# Altium footprint library DIP-RL  0607.PCBlib: 52 footprints (part 1 of 4)
Each footprint in its own frame and in the unit in brackets; x right, y up, seen from the top. Pads: shape width x height; smd on the part's side, far side on the other; paste and mask are expansions set on the pad; w line width, h text height; cw(c..) or ccw(c..) is an arc to the next point about the centre after c.
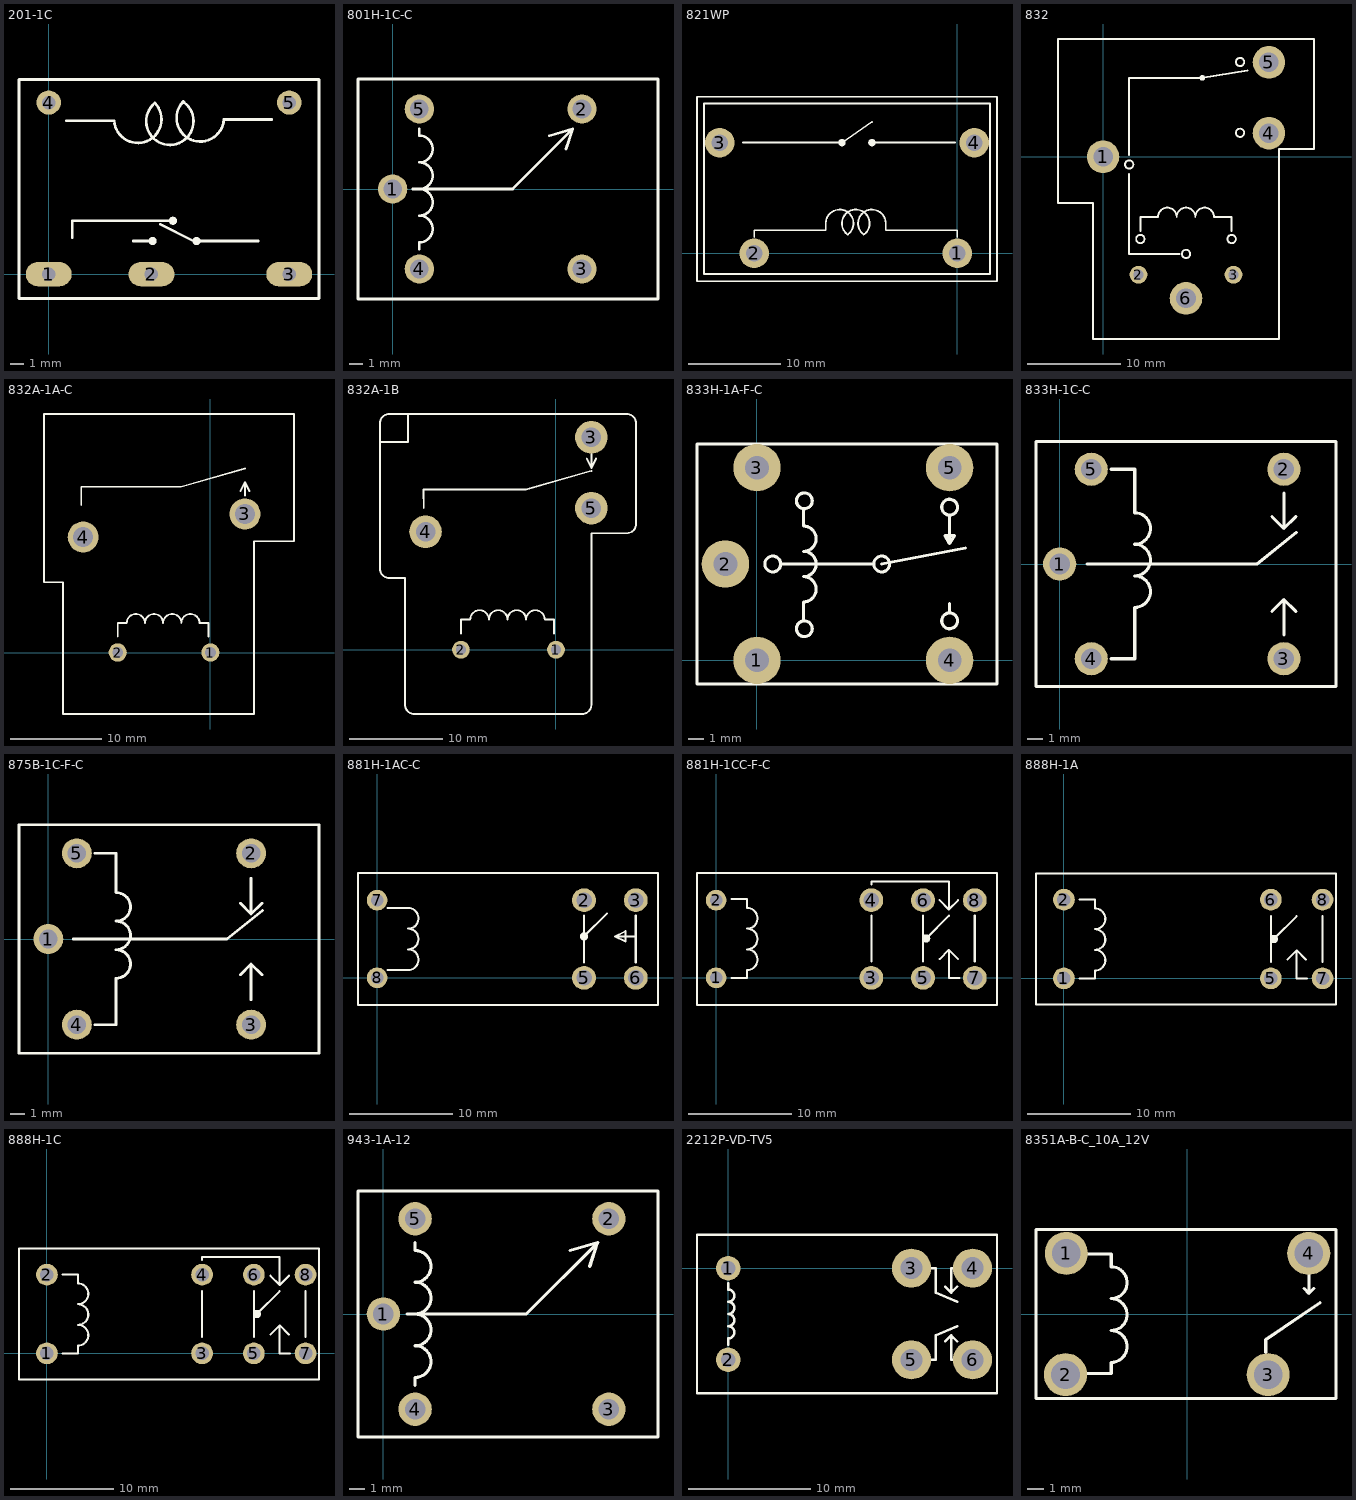
[diagram p0: the footprints below, top view; thin cyan lines are the x and y axes]

## 201-1C [mm] "201"
height 11
pads (5):
  oval 3.4x1.8 hole 1: 1(0,0) 2(7.6,0) 3(17.8,0)
  round 1.8 hole 1: 4(0,12.7) 5(17.8,12.7)
Top Overlay:
  circle w0.2: c9.191,3.95 r0.2
  circle w0.2: c10.941,2.45 r0.2
  circle w0.2: c7.691,2.45 r0.2
  lines w0.2: 1.305,11.344 4.845,11.344 ccw(c6.592,11.456) 7.855,12.666 ccw(c8.964,11.312) 10.013,12.713 ; 1.75,2.7 1.75,3.95 9.25,3.95 ; 6.25,2.45 7.891,2.45 ; 8.25,3.7 10.75,2.45 15.5,2.45 ; 9.95,12.773 ccw(c11.214,11.562) 12.96,11.45 16.5,11.45 16.513,11.463 ; -2.2,-1.8 -2.2,14.4 20,14.4 20,-1.8 -2.2,-1.8
Top Solder:
  lines w1.3: -0.5,0 0,0 0.5,0 ; 7.1,0 7.6,0 8.1,0 ; 17.3,0 17.8,0 18.3,0
Drill Drawing:
  lines w0.2: -0.5,-0.5 cw(c-0.5,0) -0.5,0.5 0.5,0.5 cw(c0.5,0) 0.5,-0.5 -0.5,-0.5 ; 7.1,-0.5 cw(c7.1,0) 7.1,0.5 8.1,0.5 cw(c8.1,0) 8.1,-0.5 7.1,-0.5 ; 17.3,-0.5 cw(c17.3,0) 17.3,0.5 18.3,0.5 cw(c18.3,0) 18.3,-0.5 17.3,-0.5
  text "(2.0*1.0)mm*3" at 2.5,1.75 h1.2

## 801H-1C-C [mm] "0720980015"
height 20.2
pads (5):
  round 2.2 hole 1.4: 1(0,0) 2(14.2,6) 3(14.2,-6) 4(2,-6) 5(2,6)
Top Overlay:
  lines w0.2: 1.5,0 9,0 13.5,4.5 ; 2,-4.5 2,-4 ccw(c2,-3) 2,-2 ccw(c2,-1) 2,0 ccw(c2,1) 2,2 ccw(c2,3) 2,4 2,4.5 ; 11.75,4 13.5,4.5 ; 13,3 13.5,4.5 ; -2.6,-8.25 19.9,-8.25 19.9,8.25 -2.6,8.25 -2.6,-8.25

## 821WP [mm]
height 32
pads (4):
  round 3.2 hole 1.8: 1(0,0) 2(-22,0) 3(-25.75,12) 4(1.85,12)
Top Overlay:
  circle w0.3: c-12.5,12 r0.25
  circle w0.3: c-9.25,12 r0.25
  lines w0.2: -23.25,12 -12.5,12 -9.25,14.25 ; -22,1.75 -22,2.5 -14.25,2.5 -14.25,3.25 cw(c-12.75,3.25) -11.847,2.052 ; -11.903,2.052 cw(c-11,3.25) -10.036,2.101 ; -10.153,2.052 cw(c-9.25,3.25) -7.75,3.25 -7.75,2.5 0,2.5 0,1.75 ; -9.25,12 -0.25,12 ; -28.2,-3.025 -28.2,16.975 4.3,16.975 4.3,-3.025 -28.2,-3.025 ; -27.45,-2.25 -27.45,16.25 3.55,16.25 3.55,-2.25 -27.45,-2.25

## 832 [mm]
height 20.4
pads (6):
  round 3.5 hole 2.1: 1(0,0) 4(17.8,2.54) 5(17.8,10.14) 6(8.9,-15.2)
  round 1.9 hole 1.1: 2(3.8,-12.66) 3(14,-12.66)
Top Overlay:
  circle w0.2: c10.647,8.47 r0.2
  circle w0.2: c14.7,2.57 r0.447
  circle w0.2: c14.7,10.17 r0.447
  circle w0.2: c4,-8.83 r0.447
  circle w0.2: c13.8,-8.83 r0.447
  circle w0.2: c8.9,-10.43 r0.447
  circle w0.2: c2.8,-0.83 r0.447
  lines w0.2: 2.8,-1.83 2.8,-10.43 8.2,-10.43 ; 2.8,0.17 2.8,8.47 10.5,8.47 15.5,9.27 ; 4,-7.96 4,-6.46 ; 13.8,-7.96 13.8,-6.46 11.9,-6.46 ccw(c10.9,-6.46) 9.9,-6.46 ccw(c8.9,-6.46) 7.9,-6.46 ccw(c6.9,-6.46) 5.9,-6.46 ; 4,-6.46 5.9,-6.46 ; 4,-6.46 5.9,-6.46 ; -4.85,-4.96 -4.85,12.64 22.65,12.64 22.65,0.84 18.9,0.84 18.9,-19.56 -1.1,-19.56 -1.1,-4.96 -4.85,-4.96

## 832A-1A-C [mm] "0720610015"
height 20.4
pads (4):
  round 2 hole 1.2: 1(0,0) 2(-10.2,0)
  round 3.4 hole 2.2: 3(3.794,15.236) 4(-14,12.7)
Top Overlay:
  lines w0.2: -14.206,16.236 -14.206,18.236 -3.206,18.236 3.794,20.236 ; -10.206,1.736 -10.206,3.236 -9.206,3.236 cw(c-8.206,3.236) -7.206,3.236 cw(c-6.206,3.236) -5.206,3.236 cw(c-4.206,3.236) -3.206,3.236 cw(c-2.206,3.236) -1.206,3.236 -0.206,3.236 -0.206,1.736 ; 3.294,17.736 3.794,18.736 ; 3.794,17.236 3.794,18.736 ; 4.294,17.736 3.794,18.736 ; -18.3,7.736 -18.3,26.236 9.18,26.236 9.18,12.236 4.794,12.236 4.794,-6.764 -16.206,-6.764 -16.206,7.736 -18.3,7.736

## 832A-1B [mm]
height 20.4
pads (5):
  round 1.9 hole 1.1: 1(0,0) 2(-10.2,0)
  round 3.5 hole 2.1: 3(3.8,22.8) 4(-14,12.66) 5(3.8,15.2)
Top Overlay:
  lines w0.2: -18.9,22.3 -15.9,22.3 -15.9,25.3 ; -14.2,15.2 -14.206,17.196 -3.206,17.196 3.8,19.2 ; -10.206,1.736 -10.206,3.236 -9.206,3.236 cw(c-8.206,3.236) -7.206,3.236 cw(c-6.206,3.236) -5.206,3.236 cw(c-4.206,3.236) -3.206,3.236 cw(c-2.206,3.236) -1.206,3.236 -0.206,3.236 -0.206,1.736 ; 3.306,20.504 3.806,19.504 ; 3.806,21.004 3.806,19.504 ; 4.306,20.504 3.806,19.504 ; -18.9,8.7 ccw(c-17.9,8.7) -17.9,7.7 -16.2,7.7 -16.2,-5.9 ccw(c-15.2,-5.9) -15.2,-6.9 2.8,-6.9 ccw(c2.8,-5.9) 3.8,-5.9 3.8,12.5 7.6,12.5 ccw(c7.6,13.5) 8.6,13.5 8.6,24.3 ccw(c7.6,24.3) 7.6,25.3 -17.9,25.3 ccw(c-17.9,24.3) -18.9,24.3 -18.9,8.7

## 833H-1A-F-C [mm] "0720840515"
height 15
pads (5):
  round 3 hole 1.5: 1(0,0) 2(-2,6.1) 3(0,12.2) 4(12.2,0) 5(12.2,12.2)
Top Overlay:
  circle w0.2: c12.2,2.5 r0.5
  circle w0.2: c12.2,9.7 r0.5
  circle w0.2: c7.9,6.1 r0.5
  circle w0.2: c1,6.1 r0.5
  circle w0.2: c3,2 r0.5
  circle w0.2: c3,10.1 r0.5
  lines w0.2: 1.5,6.1 7.4,6.1 ; 2.95,2.55 2.95,3.7 ccw(c2.95,4.5) 2.95,5.3 ccw(c2.95,6.1) 2.95,6.9 ccw(c2.95,7.7) 2.95,8.5 2.95,9.55 ; 7.9,6.1 13.208,7.112 ; 12.2,3 12.2,3.6 ; 12.2,9.2 12.2,7.4 ; 12.2,7.4 11.9,7.9 12.5,7.9 12.2,7.4 ; -3.8,-1.5 -3.8,13.7 15.2,13.7 15.2,-1.5 -3.8,-1.5

## 833H-1C-C [mm] "0720840115"
height 15
pads (5):
  round 2.1 hole 1.3: 1(0,0) 2(14.2,6) 3(14.2,-6) 4(2,-6) 5(2,6)
Top Overlay:
  lines w0.2: 1.75,0 12.5,0 15,2 ; 3.25,-6 4.75,-6 4.75,-2.75 ccw(c4.75,-1.75) 4.75,-0.75 ccw(c4.75,0.25) 4.75,1.25 ccw(c4.75,2.25) 4.75,3.25 4.75,6 3.25,6 ; 13.45,-3 14.2,-2.25 ; 13.45,3 14.2,2.25 ; 14.2,-4.5 14.2,-2.25 ; 14.2,4.5 14.2,2.25 ; 14.95,-3 14.2,-2.25 ; 14.95,3 14.2,2.25 ; -1.5,-7.75 17.5,-7.75 17.5,7.75 -1.5,7.75 -1.5,-7.75

## 875B-1C-F-C [mm] "0721100015"
height 20.3
pads (5):
  round 2.1 hole 1.3: 1(0,0) 2(14.2,6) 3(14.2,-6) 4(2,-6) 5(2,6)
Top Overlay:
  lines w0.2: 1.75,0 12.5,0 15,2 ; 3.25,-6 4.75,-6 4.75,-2.75 ccw(c4.75,-1.75) 4.75,-0.75 ccw(c4.75,0.25) 4.75,1.25 ccw(c4.75,2.25) 4.75,3.25 4.75,6 3.25,6 ; 13.45,-2.5 14.2,-1.75 ; 13.45,2.5 14.2,1.75 ; 14.2,-4.25 14.2,-1.75 ; 14.2,4.25 14.2,1.75 ; 14.95,-2.5 14.2,-1.75 ; 14.95,2.5 14.2,1.75 ; -2.05,-8 -2.05,8 18.95,8 18.95,-8 -2.05,-8

## 881H-1AC-C [mm]
height 20.6
pads (6):
  round 2.3 hole 1.5: 2(20,7.5) 3(25,7.5) 5(20,0) 6(25,0)
  round 2 hole 1.2: 7(0,7.5) 8(0,0)
Top Overlay:
  circle w0.3: c20,4 r0.25
  lines w0.2: 1,0.75 3,0.75 ccw(c3,1.75) 3,2.75 ccw(c3,3.75) 3,4.75 ccw(c3,5.75) 3,6.75 1,6.75 ; 20,1.5 20,6 ; 20,4 22.2,6.2 ; 25,1.5 25,6 ; 25,4 23,4 ; 23,4 24,4.5 24,3.5 23,4 ; -1.85,-2.65 27.15,-2.65 27.15,10.15 -1.85,10.15 -1.85,-2.65

## 881H-1CC-F-C [mm]
height 20.6
pads (8):
  round 2 hole 1.2: 1(0,0) 2(0,7.5)
  round 2.3 hole 1.5: 3(15,0) 4(15,7.5) 5(20,0) 6(20,7.5) 7(25,0) 8(25,7.5)
Top Overlay:
  circle w0.3: c20.3,3.8 r0.25
  lines w0.2: 1.5,0 3,0 3,0.75 ccw(c3,1.75) 3,2.75 ccw(c3,3.75) 3,4.75 ccw(c3,5.75) 3,6.75 3,7.6 1.5,7.6 ; 15,1.6 15,6 ; 15,9 15,9.3 21.5,9.3 22.5,9.3 22.5,6.6 ; 20,1.6 20,6 ; 20,3.8 20.3,3.8 22.5,6 ; 21.6,1.8 22.5,2.7 ; 21.6,7.5 22.5,6.6 ; 23.4,1.8 22.5,2.7 ; 23.4,7.5 22.5,6.6 ; 23.5,0 22.5,0 22.5,2.7 ; 25,1.6 25,6 ; -1.85,-2.65 -1.85,10.15 27.15,10.15 27.15,-2.65 -1.85,-2.65

## 888H-1A [mm]
height 15.7
pads (6):
  round 2.1 hole 1.3: 1(-0.001,0.009) 2(-0.001,7.609) 5(19.999,0.009) 6(19.999,7.609) 7(24.999,0.009) 8(24.999,7.609)
Top Overlay:
  circle w0.3: c20.299,3.809 r0.25
  lines w0.2: 1.499,0.009 2.999,0.009 2.999,0.759 ccw(c2.999,1.759) 2.999,2.759 ccw(c2.999,3.759) 2.999,4.759 ccw(c2.999,5.759) 2.999,6.759 2.999,7.609 1.499,7.609 ; 19.999,1.609 19.999,6.009 ; 19.999,3.809 20.299,3.809 22.499,6.009 ; 21.599,1.809 22.499,2.709 ; 23.399,1.809 22.499,2.709 ; 23.499,0.009 22.499,0.009 22.499,2.709 ; 24.999,1.609 24.999,6.009 ; -2.701,-2.541 26.299,-2.541 26.299,10.159 -2.701,10.159 -2.701,-2.541

## 888H-1C [mm]
height 15.7
pads (8):
  round 2.1 hole 1.3: 1(-0.001,0.009) 2(-0.001,7.609) 3(14.999,0.009) 4(14.999,7.609) 5(19.999,0.009) 6(19.999,7.609) 7(24.999,0.009) 8(24.999,7.609)
Top Overlay:
  circle w0.3: c20.299,3.809 r0.25
  lines w0.2: 1.499,0.009 2.999,0.009 2.999,0.759 ccw(c2.999,1.759) 2.999,2.759 ccw(c2.999,3.759) 2.999,4.759 ccw(c2.999,5.759) 2.999,6.759 2.999,7.609 1.499,7.609 ; 14.999,1.609 14.999,6.009 ; 14.999,9.009 14.999,9.309 21.499,9.309 22.499,9.309 22.499,6.609 ; 19.999,1.609 19.999,6.009 ; 19.999,3.809 20.299,3.809 22.499,6.009 ; 21.599,1.809 22.499,2.709 ; 21.599,7.509 22.499,6.609 ; 23.399,1.809 22.499,2.709 ; 23.399,7.509 22.499,6.609 ; 23.499,0.009 22.499,0.009 22.499,2.709 ; 24.999,1.609 24.999,6.009 ; -2.701,-2.541 26.299,-2.541 26.299,10.159 -2.701,10.159 -2.701,-2.541

## 943-1A-12 [mm] "072068053300"
height 15.5
pads (5):
  round 2.1 hole 1.3: 1(0,0) 2(14.2,6) 3(14.2,-6) 4(2,-6) 5(2,6)
Top Overlay:
  lines w0.2: 1.5,0 9,0 13.5,4.5 ; 2,-4.5 2,-4 ccw(c2,-3) 2,-2 ccw(c2,-1) 2,0 ccw(c2,1) 2,2 ccw(c2,3) 2,4 2,4.5 ; 11.75,4 13.5,4.5 ; 13,3 13.5,4.5 ; -1.6,-7.75 -1.6,7.75 17.3,7.75 17.3,-7.75 -1.6,-7.75

## 2212P-VD-TV5 [mm] "0720170005"
height 30.5
pads (6):
  round 2 hole 1.2: 1(0,0) 2(0,-7.5)
  round 3.2 hole 1.8: 3(15,0) 4(20,0) 5(15,-7.5) 6(20,-7.5)
Top Overlay:
  lines w0.2: 0,-6.25 0,-5.75 ccw(c0,-5.25) 0,-4.75 ccw(c0,-4.25) 0,-3.75 ccw(c0,-3.25) 0,-2.75 ccw(c0,-2.25) 0,-1.75 0,-1.25 ; 16.25,-7.5 17,-7.5 17,-5.5 18.75,-4.75 ; 16.25,0 17,0 17,-2 18.75,-2.75 ; 17.75,-6 18.25,-5.5 ; 17.75,-1.5 18.25,-2 ; 18.75,-7.5 18.25,-7.5 18.25,-5.5 ; 18.75,-6 18.25,-5.5 ; 18.75,-1.5 18.25,-2 ; 18.75,0 18.25,0 18.25,-2 ; -2.55,-10.25 22,-10.25 22,2.75 -2.55,2.75 -2.55,-10.25

## 8351A-B-C_10A_12V [mm]
pads (4):
  round 2.7 hole 1.8: 1(-7.569,3.801) 2(-7.619,-3.799) 3(5.081,-3.799) 4(7.621,3.801)
Top Overlay:
  lines w0.2: -6.259,-3.737 -4.759,-3.737 -4.759,-3.037 ccw(c-4.759,-2.037) -4.759,-1.037 ccw(c-4.759,-0.037) -4.759,0.963 ccw(c-4.759,1.963) -4.759,2.963 -4.759,3.763 -6.259,3.763 ; 4.931,-2.399 4.931,-1.599 8.331,0.701 ; 7.331,1.601 7.631,1.301 ; 7.631,2.501 7.631,1.301 ; 7.931,1.601 7.631,1.301 ; -9.469,-5.299 -9.469,5.301 9.331,5.301 9.331,-5.299 -9.469,-5.299